# Altium schematic symbol library CLS_Library.SchLib: 22 symbols
Pins are listed as number, name and electrical type; pins without a type are passive.

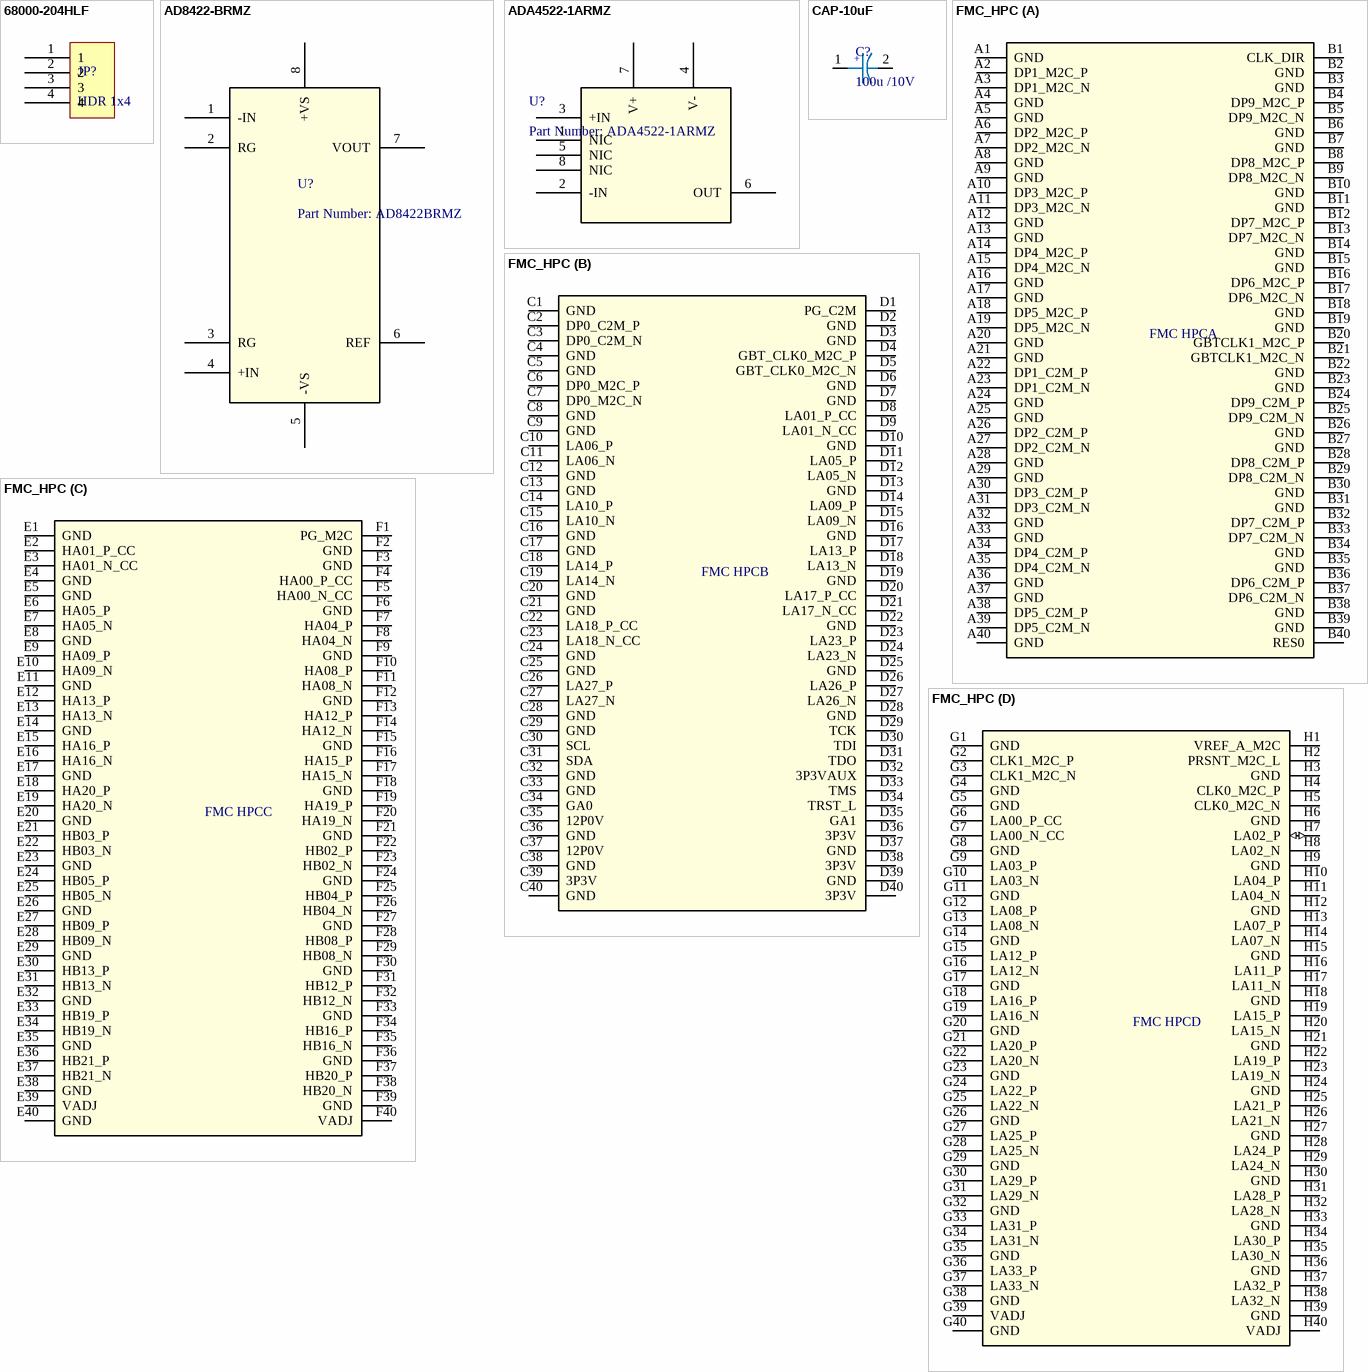
[diagram p0: symbols 68000-204HLF to FMC_HPC]

## 68000-204HLF
designator JP?, comment HDR 1x4
B.II CONN HEADER 4POS .100 STR 15AU; Manufacturer: Amphenol FCI; Manufacturer Part Number: 68000-204HLF; Voltage Rating: 1.5kV; Number of Positions: 4; Gender: Male; Connector Type: Male Pin; Current Rating: 3A; Insulation Resistance: 5GR; Pitch: 2.54mm; Mating Post Length: 5.84mm; Supplier 1: Digi-Key; Stock 1: 4921; Pricing 1: 1=0.31, 10=0.293, 100=0.2048, 500=0.1756, 1000=0.1463, 5000=0.1254, 10000=0.117 (USD); Mount: Through Hole; Colour: Black; Housing Colour: Black; Housing Material: Thermoplastic; Contact Plating: Nickel,Gold,GXT; Contact Material: Bronze; Min Operating Temperature: -65°C; Max Operating Temperature: 125°C; Package Quantity: 100; Number of Rows: 1; Packaging: Bulk; Contact Gender: Male; Termination: Solder; Max Voltage Rating (AC): 1.5kV; Number of Contacts: 4; Orientation: Straight; Length: 10.16mm; Depth: 2.41mm; Contact Mating Length: 0.23inch; Termination Post Length: 2.41mm; Radiation Hardening: No; Flammability Rating: UL94 V-0; ComponentLink1URL: https://datasheet.ciiva.com/728/68000-728901.pdf; ComponentLink1Description: https://datasheet.ciiva.com/728/68000-728901.pdf; ComponentLink2URL: https://datasheet.ciiva.com/22873/70302489-22873093.pdf; ComponentLink2Description: https://datasheet.ciiva.com/22873/70302489-22873093.pdf; ComponentLink3URL: https://datasheet.ciiva.com/10149/68000-10149835.pdf; ComponentLink3Description: https://datasheet.ciiva.com/10149/68000-10149835.pdf; ComponentLink4URL: https://datasheet.ciiva.com/5149/68000-274280-5149869.pdf; ComponentLink4Description: https://datasheet.ciiva.com/5149/68000-274280-5149869.pdf; ComponentLink5URL: https://datasheet.ciiva.com/46395/1914865-46395853.pdf; ComponentLink5Description: https://datasheet.ciiva.com/46395/1914865-46395853.pdf; Supplier Part Number 1: 609-3255-ND
footprint Hdr_1x4_2.54mm
pins: 1, 2, 3, 4

## AD8422-BRMZ
designator U?, comment Part Number: AD8422BRMZ
No Description Available; Vendor: Analog Devices Inc; Built_By: Analog Devices Inc.; SourceLibrary: Analog_2017-10-24; Manufacturer_Part_Number: AD8422BRMZ; Copyright: Copyright (C) 2018 Accelerated Designs. All rights reserved; RefDes: RefDes; Type: DEV; Value: Value
footprint AD8422
pins: 1 -IN, 2 RG, 3 RG, 4 +IN, 5 -VS, 6 REF, 7 VOUT, 8 +VS

## ADA4522-1ARMZ
designator U?, comment Part Number: ADA4522-1ARMZ
No Description Available; Vendor: Analog Devices Inc; Built_By: Analog Devices Inc.; SourceLibrary: Analog_2017-10-24; Manufacturer_Part_Number: ADA4522-1ARMZ; Copyright: Copyright (C) 2018 Accelerated Designs. All rights reserved; RefDes: RefDes; Type: DEV; Value: Value
footprint ADA4522-1
pins: 1 NIC, 2 -IN, 3 +IN, 4 V-, 5 NIC, 6 OUT, 7 V+, 8 NIC

## CAP-10uF
designator C?, comment 100u /10V
CAP ALUM 100UF 20% 10V SMD; Manufacturer: Panasonic Electronic Components; Manufacturer Part Number: EEE-1AA101WR; Lifetime @ Temp.: 1000 Hrs @ 85°C; Polarization: Polar; Surface Mount Land Size: 0.209" L x 0.209" W (5.30mm x 5.30mm); Supplier 1: Digi-Key; RoHS: RoHS Compliant; Category: Capacitors; Stock 1: 89696; Pricing 1: 1=0.31, 10=0.212, 100=0.1272, 500=0.09538 (USD); Packaging: Cut Tape (CT); Part Status: Active; Tolerance: ±20%; ESR (Equivalent Series Resistance): -; Operating Temperature: -40°C ~ 85°C; Ratings: AEC-Q200; Applications: Automotive; Lead Spacing: -; Size / Dimension: 0.197" Dia (5.00mm); Height - Seated (Max): 0.213" (5.40mm); Mounting Type: Surface Mount; Package / Case: Radial, Can - SMD; ComponentLink1URL: https://industrial.panasonic.com/cdbs/www-data/pdf/RDE0000/ABA0000C1145.pdf; ComponentLink1Description: https://industrial.panasonic.com/cdbs/www-data/pdf/RDE0000/ABA0000C1145.pdf; Supplier Part Number 1: PCE3867CT-ND
footprint C_ALU_C_SIZE
pins: 1, 2
text: +

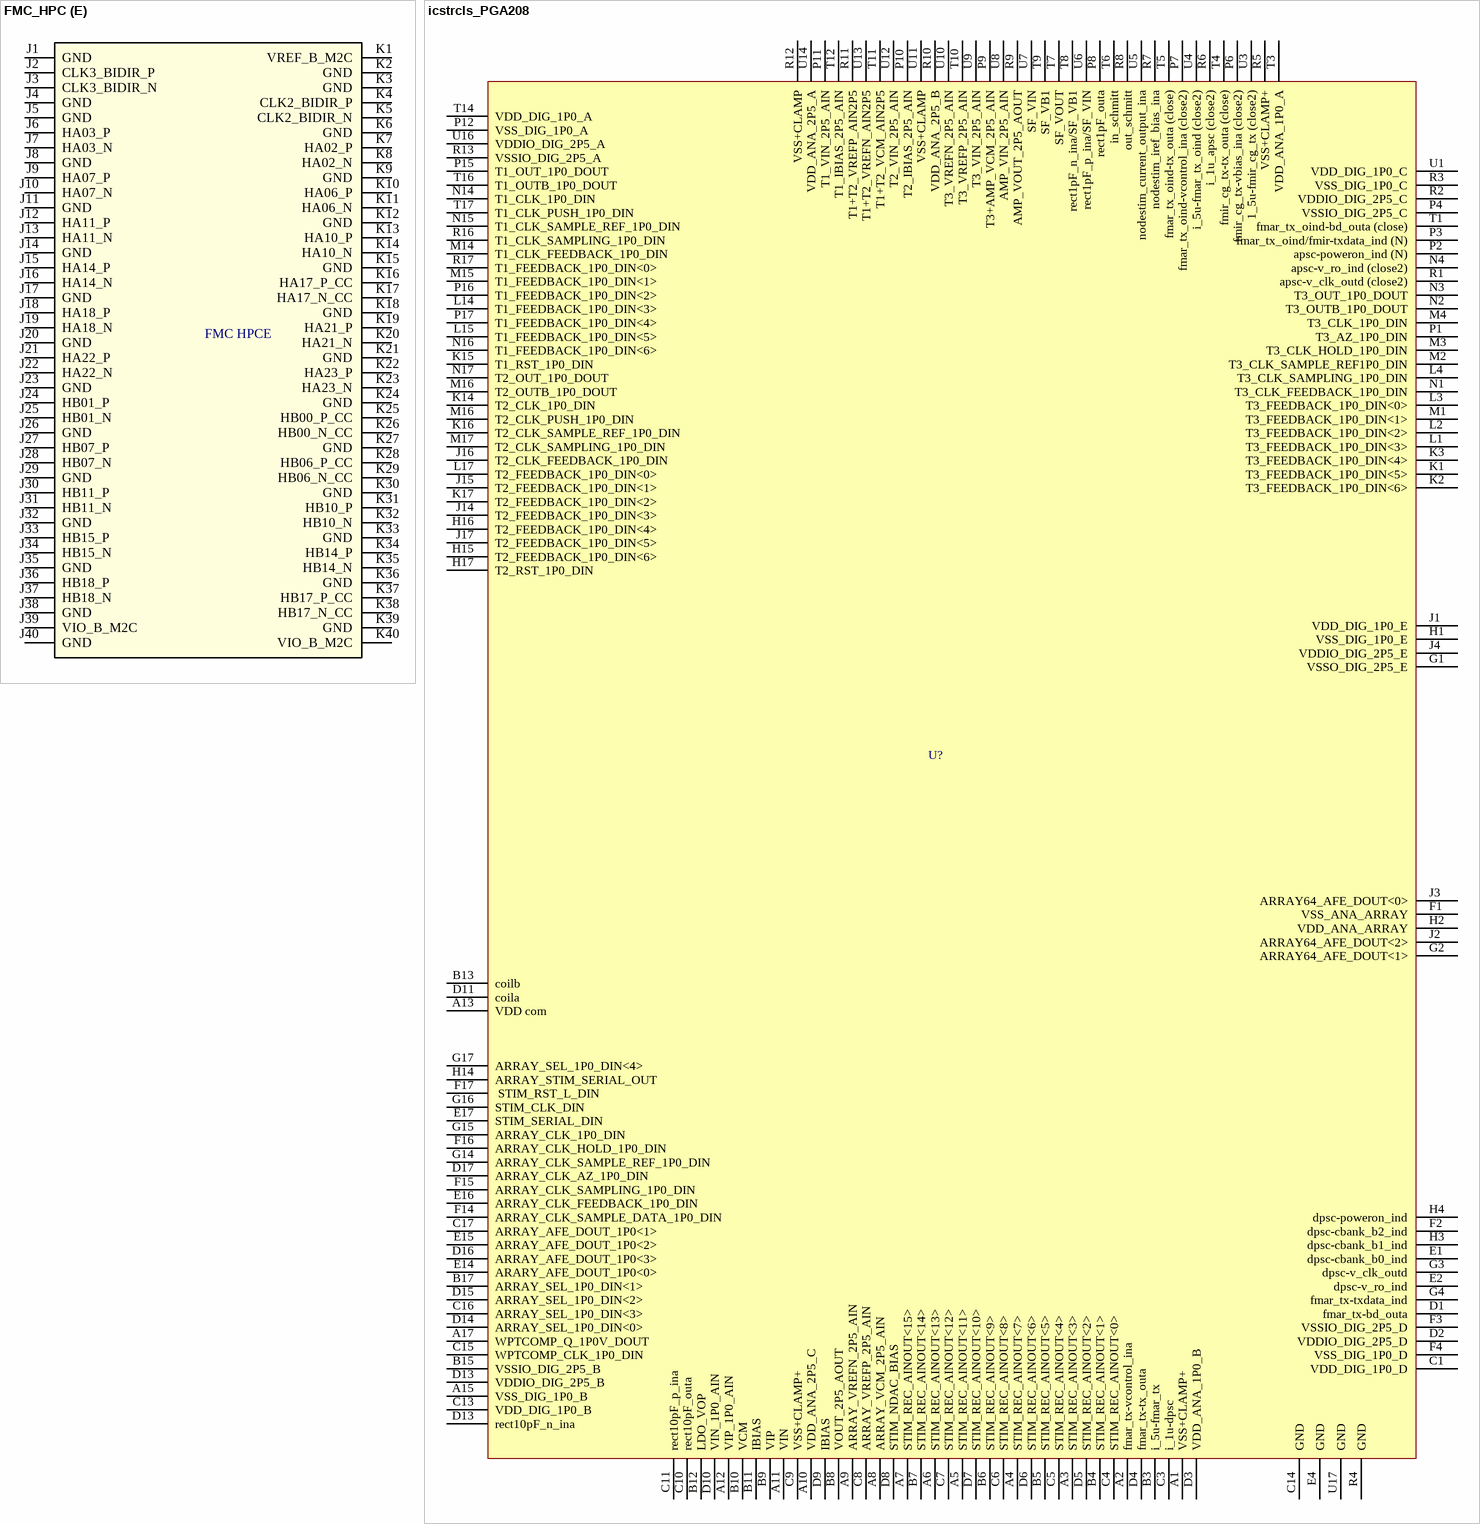
[diagram p1: symbols FMC_HPC to icstrcls_PGA208]

## FMC_HPC
designator FMC HPC
FMC_HPC
footprint FMC_HPC
part A pins: A1 GND, A2 DP1_M2C_P, A3 DP1_M2C_N, A4 GND, A5 GND, A6 DP2_M2C_P, A7 DP2_M2C_N, A8 GND, A9 GND, A10 DP3_M2C_P, A11 DP3_M2C_N, A12 GND, A13 GND, A14 DP4_M2C_P, A15 DP4_M2C_N, A16 GND, A17 GND, A18 DP5_M2C_P, A19 DP5_M2C_N, A20 GND, A21 GND, A22 DP1_C2M_P, A23 DP1_C2M_N, A24 GND, A25 GND, A26 DP2_C2M_P, A27 DP2_C2M_N, A28 GND, A29 GND, A30 DP3_C2M_P, A31 DP3_C2M_N, A32 GND, A33 GND, A34 DP4_C2M_P, A35 DP4_C2M_N, A36 GND, A37 GND, A38 DP5_C2M_P, A39 DP5_C2M_N, A40 GND, B1 CLK_DIR, B2 GND, B3 GND, B4 DP9_M2C_P, B5 DP9_M2C_N, B6 GND, B7 GND, B8 DP8_M2C_P, B9 DP8_M2C_N, B10 GND, B11 GND, B12 DP7_M2C_P, B13 DP7_M2C_N, B14 GND, B15 GND, B16 DP6_M2C_P, B17 DP6_M2C_N, B18 GND, B19 GND, B20 GBTCLK1_M2C_P, B21 GBTCLK1_M2C_N, B22 GND, B23 GND, B24 DP9_C2M_P, B25 DP9_C2M_N, B26 GND, B27 GND, B28 DP8_C2M_P, B29 DP8_C2M_N, B30 GND, B31 GND, B32 DP7_C2M_P, B33 DP7_C2M_N, B34 GND, B35 GND, B36 DP6_C2M_P, B37 DP6_C2M_N, B38 GND, B39 GND, B40 RES0
part B pins: C1 GND, C2 DP0_C2M_P, C3 DP0_C2M_N, C4 GND, C5 GND, C6 DP0_M2C_P, C7 DP0_M2C_N, C8 GND, C9 GND, C10 LA06_P, C11 LA06_N, C12 GND, C13 GND, C14 LA10_P, C15 LA10_N, C16 GND, C17 GND, C18 LA14_P, C19 LA14_N, C20 GND, C21 GND, C22 LA18_P_CC, C23 LA18_N_CC, C24 GND, C25 GND, C26 LA27_P, C27 LA27_N, C28 GND, C29 GND, C30 SCL, C31 SDA, C32 GND, C33 GND, C34 GA0, C35 12P0V, C36 GND, C37 12P0V, C38 GND, C39 3P3V, C40 GND, D1 PG_C2M, D2 GND, D3 GND, D4 GBT_CLK0_M2C_P, D5 GBT_CLK0_M2C_N, D6 GND, D7 GND, D8 LA01_P_CC, D9 LA01_N_CC, D10 GND, D11 LA05_P, D12 LA05_N, D13 GND, D14 LA09_P, D15 LA09_N, D16 GND, D17 LA13_P, D18 LA13_N, D19 GND, D20 LA17_P_CC, D21 LA17_N_CC, D22 GND, D23 LA23_P, D24 LA23_N, D25 GND, D26 LA26_P, D27 LA26_N, D28 GND, D29 TCK, D30 TDI, D31 TDO, D32 3P3VAUX, D33 TMS, D34 TRST_L, D35 GA1, D36 3P3V, D37 GND, D38 3P3V, D39 GND, D40 3P3V
part C pins: E1 GND, E2 HA01_P_CC, E3 HA01_N_CC, E4 GND, E5 GND, E6 HA05_P, E7 HA05_N, E8 GND, E9 HA09_P, E10 HA09_N, E11 GND, E12 HA13_P, E13 HA13_N, E14 GND, E15 HA16_P, E16 HA16_N, E17 GND, E18 HA20_P, E19 HA20_N, E20 GND, E21 HB03_P, E22 HB03_N, E23 GND, E24 HB05_P, E25 HB05_N, E26 GND, E27 HB09_P, E28 HB09_N, E29 GND, E30 HB13_P, E31 HB13_N, E32 GND, E33 HB19_P, E34 HB19_N, E35 GND, E36 HB21_P, E37 HB21_N, E38 GND, E39 VADJ, E40 GND, F1 PG_M2C, F2 GND, F3 GND, F4 HA00_P_CC, F5 HA00_N_CC, F6 GND, F7 HA04_P, F8 HA04_N, F9 GND, F10 HA08_P, F11 HA08_N, F12 GND, F13 HA12_P, F14 HA12_N, F15 GND, F16 HA15_P, F17 HA15_N, F18 GND, F19 HA19_P, F20 HA19_N, F21 GND, F22 HB02_P, F23 HB02_N, F24 GND, F25 HB04_P, F26 HB04_N, F27 GND, F28 HB08_P, F29 HB08_N, F30 GND, F31 HB12_P, F32 HB12_N, F33 GND, F34 HB16_P, F35 HB16_N, F36 GND, F37 HB20_P, F38 HB20_N, F39 GND, F40 VADJ
part D pins: G1 GND, G2 CLK1_M2C_P, G3 CLK1_M2C_N, G4 GND, G5 GND, G6 LA00_P_CC, G7 LA00_N_CC, G8 GND, G9 LA03_P, G10 LA03_N, G11 GND, G12 LA08_P, G13 LA08_N, G14 GND, G15 LA12_P, G16 LA12_N, G17 GND, G18 LA16_P, G19 LA16_N, G20 GND, G21 LA20_P, G22 LA20_N, G23 GND, G24 LA22_P, G25 LA22_N, G26 GND, G27 LA25_P, G28 LA25_N, G29 GND, G30 LA29_P, G31 LA29_N, G32 GND, G33 LA31_P, G34 LA31_N, G35 GND, G36 LA33_P, G37 LA33_N, G38 GND, G39 VADJ, G40 GND, H1 VREF_A_M2C, H2 PRSNT_M2C_L, H3 GND, H4 CLK0_M2C_P, H5 CLK0_M2C_N, H6 GND, H7 LA02_P (io), H8 LA02_N, H9 GND, H10 LA04_P, H11 LA04_N, H12 GND, H13 LA07_P, H14 LA07_N, H15 GND, H16 LA11_P, H17 LA11_N, H18 GND, H19 LA15_P, H20 LA15_N, H21 GND, H22 LA19_P, H23 LA19_N, H24 GND, H25 LA21_P, H26 LA21_N, H27 GND, H28 LA24_P, H29 LA24_N, H30 GND, H31 LA28_P, H32 LA28_N, H33 GND, H34 LA30_P, H35 LA30_N, H36 GND, H37 LA32_P, H38 LA32_N, H39 GND, H40 VADJ
part E pins: J1 GND, J2 CLK3_BIDIR_P, J3 CLK3_BIDIR_N, J4 GND, J5 GND, J6 HA03_P, J7 HA03_N, J8 GND, J9 HA07_P, J10 HA07_N, J11 GND, J12 HA11_P, J13 HA11_N, J14 GND, J15 HA14_P, J16 HA14_N, J17 GND, J18 HA18_P, J19 HA18_N, J20 GND, J21 HA22_P, J22 HA22_N, J23 GND, J24 HB01_P, J25 HB01_N, J26 GND, J27 HB07_P, J28 HB07_N, J29 GND, J30 HB11_P, J31 HB11_N, J32 GND, J33 HB15_P, J34 HB15_N, J35 GND, J36 HB18_P, J37 HB18_N, J38 GND, J39 VIO_B_M2C, J40 GND, K1 VREF_B_M2C, K2 GND, K3 GND, K4 CLK2_BIDIR_P, K5 CLK2_BIDIR_N, K6 GND, K7 HA02_P, K8 HA02_N, K9 GND, K10 HA06_P, K11 HA06_N, K12 GND, K13 HA10_P, K14 HA10_N, K15 GND, K16 HA17_P_CC, K17 HA17_N_CC, K18 GND, K19 HA21_P, K20 HA21_N, K21 GND, K22 HA23_P, K23 HA23_N, K24 GND, K25 HB00_P_CC, K26 HB00_N_CC, K27 GND, K28 HB06_P_CC, K29 HB06_N_CC, K30 GND, K31 HB10_P, K32 HB10_N, K33 GND, K34 HB14_P, K35 HB14_N, K36 GND, K37 HB17_P_CC, K38 HB17_N_CC, K39 GND, K40 VIO_B_M2C

## icstrcls_PGA208
designator U?  (value not drawn)
footprint CPGA20809 (208 Pinout)
pins: A1 VSS+CLAMP+, A2 fmar_tx-vcontrol_ina, A3 STIM_REC_AINOUT<3>, A4 STIM_REC_AINOUT<7>, A5 STIM_REC_AINOUT<11>, A6 STIM_REC_AINOUT<13>, A7 STIM_REC_AINOUT<15>, A8 ARRAY_VCM_2P5_AIN, A9 ARRAY_VREFN_2P5_AIN, A10 VDD_ANA_2P5_C, A11 VIN, A12 VIP_1P0_AIN, A13 VDD com, A15 VSS_DIG_1P0_B, A17 WPTCOMP_Q_1P0V_DOUT, B3 i_5u-fmar_tx, B4 STIM_REC_AINOUT<1>, B5 STIM_REC_AINOUT<5>, B6 STIM_REC_AINOUT<9>, B7 STIM_REC_AINOUT<14>, B8 VOUT_2P5_AOUT, B9 VIP, B10 VCM, B11 IBIAS, B12 LDO_VOP, B13 coilb, B15 VSSIO_DIG_2P5_B, B17 ARRAY_SEL_1P0_DIN<1>, C1 VDD_DIG_1P0_D, C3 i_1u-dpsc, C4 STIM_REC_AINOUT<0>, C5 STIM_REC_AINOUT<4>, C6 STIM_REC_AINOUT<8>, C7 STIM_REC_AINOUT<12>, C8 ARRAY_VREFP_2P5_AIN, C9 VSS+CLAMP+, C10 rect10pF_outa, C11 rect10pF_p_ina, C13 VDD_DIG_1P0_B, C14 GND, C15 WPTCOMP_CLK_1P0_DIN, C16 ARRAY_SEL_1P0_DIN<3>, C17 ARRAY_AFE_DOUT_1P0<1>, D1 fmar_tx-bd_outa, D2 VDDIO_DIG_2P5_D, D3 VDD_ANA_1P0_B, D4 fmar_tx-tx_outa, D5 STIM_REC_AINOUT<2>, D6 STIM_REC_AINOUT<6>, D7 STIM_REC_AINOUT<10>, D8 STIM_NDAC_BIAS, D9 IBIAS, D10 VIN_1P0_AIN, D11 coila, D13 rect10pF_n_ina, D13 VDDIO_DIG_2P5_B, D14 ARRAY_SEL_1P0_DIN<0>, D15 ARRAY_SEL_1P0_DIN<2>, D16 ARRAY_AFE_DOUT_1P0<3>, D17 ARRAY_CLK_AZ_1P0_DIN, E1 dpsc-cbank_b0_ind, E2 dpsc-v_ro_ind, E4 GND, E14 ARARY_AFE_DOUT_1P0<0>, E15 ARRAY_AFE_DOUT_1P0<2>, E16 ARRAY_CLK_FEEDBACK_1P0_DIN, E17 STIM_SERIAL_DIN, F1 VSS_ANA_ARRAY, F2 dpsc-cbank_b2_ind, F3 VSSIO_DIG_2P5_D, F4 VSS_DIG_1P0_D, F14 ARRAY_CLK_SAMPLE_DATA_1P0_DIN, F15 ARRAY_CLK_SAMPLING_1P0_DIN, F16 ARRAY_CLK_HOLD_1P0_DIN, F17  STIM_RST_L_DIN, G1 VSSO_DIG_2P5_E, G2 ARRAY64_AFE_DOUT<1>, G3 dpsc-v_clk_outd, G4 fmar_tx-txdata_ind, G14 ARRAY_CLK_SAMPLE_REF_1P0_DIN, G15 ARRAY_CLK_1P0_DIN, G16 STIM_CLK_DIN, G17 ARRAY_SEL_1P0_DIN<4>, H1 VSS_DIG_1P0_E, H2 VDD_ANA_ARRAY, H3 dpsc-cbank_b1_ind, H4 dpsc-poweron_ind, H14 ARRAY_STIM_SERIAL_OUT, H15 T2_FEEDBACK_1P0_DIN<6>, H16 T2_FEEDBACK_1P0_DIN<4>, H17 T2_RST_1P0_DIN, J1 VDD_DIG_1P0_E, J2 ARRAY64_AFE_DOUT<2>, J3 ARRAY64_AFE_DOUT<0>, J4 VDDIO_DIG_2P5_E, J14 T2_FEEDBACK_1P0_DIN<3>, J15 T2_FEEDBACK_1P0_DIN<1>, J16 T2_CLK_FEEDBACK_1P0_DIN, J17 T2_FEEDBACK_1P0_DIN<5>, K1 T3_FEEDBACK_1P0_DIN<5>, K2 T3_FEEDBACK_1P0_DIN<6>, K3 T3_FEEDBACK_1P0_DIN<4>, K14 T2_CLK_1P0_DIN, K15 T1_RST_1P0_DIN, K16 T2_CLK_SAMPLE_REF_1P0_DIN, K17 T2_FEEDBACK_1P0_DIN<2>, L1 T3_FEEDBACK_1P0_DIN<3>, L2 T3_FEEDBACK_1P0_DIN<2>, L3 T3_FEEDBACK_1P0_DIN<0>, L4 T3_CLK_SAMPLING_1P0_DIN, L14 T1_FEEDBACK_1P0_DIN<3>, L15 T1_FEEDBACK_1P0_DIN<5>, L17 T2_FEEDBACK_1P0_DIN<0>, M1 T3_FEEDBACK_1P0_DIN<1>, M2 T3_CLK_SAMPLE_REF1P0_DIN, M3 T3_CLK_HOLD_1P0_DIN, M4 T3_CLK_1P0_DIN, M14 T1_CLK_FEEDBACK_1P0_DIN, M15 T1_FEEDBACK_1P0_DIN<1>, M16 T2_CLK_PUSH_1P0_DIN, M16 T2_OUTB_1P0_DOUT, M17 T2_CLK_SAMPLING_1P0_DIN, N1 T3_CLK_FEEDBACK_1P0_DIN, N2 T3_OUTB_1P0_DOUT, N3 T3_OUT_1P0_DOUT, N4 apsc-v_ro_ind (close2), N14 T1_CLK_1P0_DIN, N15 T1_CLK_SAMPLE_REF_1P0_DIN, N16 T1_FEEDBACK_1P0_DIN<6>, N17 T2_OUT_1P0_DOUT, P1 T3_AZ_1P0_DIN, P2 apsc-poweron_ind (N), P3 fmar_tx_oind/fmir-txdata_ind (N), P4 VSSIO_DIG_2P5_C, P6 fmir_cg_tx-vbias_ina (close2), P7 fmar_tx_oind-vcontrol_ina (close2), P8 rect1pF_outa, P9 T3+AMP_VCM_2P5_AIN, P10 T2_IBIAS_2P5_AIN, P11 T1_VIN_2P5_AIN, P12 VSS_DIG_1P0_A, P15 T1_OUT_1P0_DOUT, P16 T1_FEEDBACK_1P0_DIN<2>, P17 T1_FEEDBACK_1P0_DIN<4>, R1 apsc-v_clk_outd (close2), R2 VDDIO_DIG_2P5_C, R3 VSS_DIG_1P0_C, R4 GND, R5 VSS+CLAMP+, R6 i_1u_apsc (close2), R7 nodestim_iref_bias_ina, R8 out_schmitt, R9 AMP_VOUT_2P5_AOUT, R10 VDD_ANA_2P5_B, R11 T1+T2_VREFP_AIN2P5, R12 VSS+CLAMP, R13 VSSIO_DIG_2P5_A, R16 T1_CLK_SAMPLING_1P0_DIN, R17 T1_FEEDBACK_1P0_DIN<0>, T1 fmar_tx_oind-bd_outa (close), T3 VDD_ANA_1P0_A, T4 fmir_cg_tx-tx_outa (close), T5 fmar_tx_oind-tx_outa (close), T6 in_schmitt, T7 SF_VOUT, T8 rect1pF_n_ina/SF_VB1, T9 SF_VB1, T10 T3_VREFP_2P5_AIN, T11 T1+T2_VCM_AIN2P5, T12 T1_IBIAS_2P5_AIN, T14 VDD_DIG_1P0_A, T16 T1_OUTB_1P0_DOUT, T17 T1_CLK_PUSH_1P0_DIN, U1 VDD_DIG_1P0_C, U3 1_5u-fmir_cg_tx (close2), U4 i_5u-fmar_tx_oind (close2), U5 nodestim_current_output_ina, U6 rect1pF_p_ina/SF_VIN, U7 SF_VIN, U8 AMP_VIN_2P5_AIN, U9 T3_VIN_2P5_AIN, U10 T3_VREFN_2P5_AIN, U11 VSS+CLAMP, U12 T2_VIN_2P5_AIN, U13 T1+T2_VREFN_AIN2P5, U14 VDD_ANA_2P5_A, U16 VDDIO_DIG_2P5_A, U17 GND

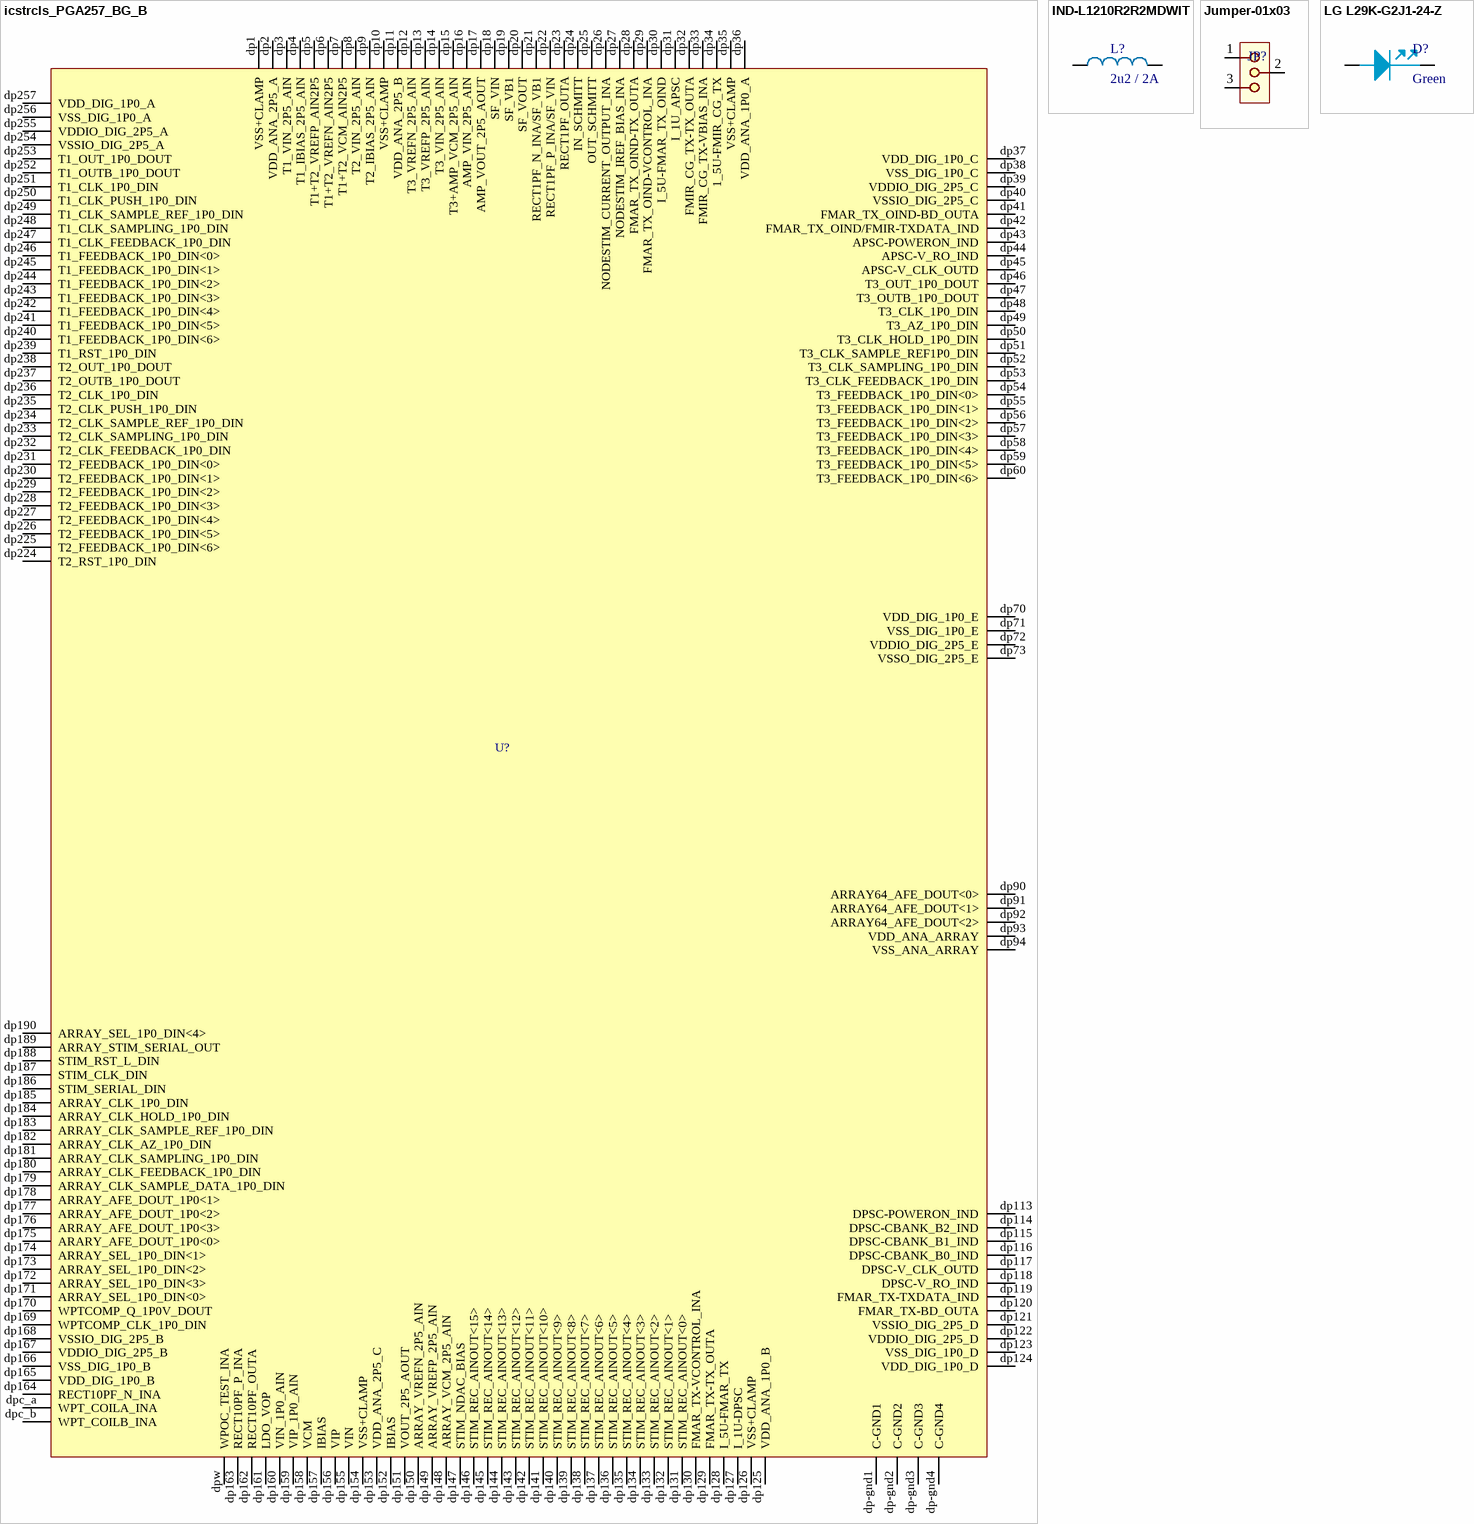
[diagram p2: symbols icstrcls_PGA257_BG_B to LG L29K-G2J1-24-Z]

## icstrcls_PGA257_BG_B
designator U?  (value not drawn)
[Bonding Diagram B - Analog] ICSTRCLS complete schematic component used to interface with PGA257 socket.
footprint CPG25604 (256 Pinout (1 align pin)); pin to pad dp1>T1 dp2>N4 dp3>R2 dp4>N3 dp5>R1 dp6>M3 dp7>P2 dp8>M4 dp9>P1 dp10>M2 dp11>N2 dp12>L3 dp13>N1 dp14>L4 dp15>M1 dp16>L2 dp17>L1 dp18>K2 dp19>K1 dp20>K4 dp21>J1 dp22>K3 dp23>H1 dp24>J2 dp25>G1 dp26>J4 dp27>H2 dp28>J3 dp29>F1 dp30>H3 dp31>G2 dp32>H4 dp33>E1 dp34>G3 dp35>F2 dp36>G4 dp37>D5 dp38>B2 dp39>D6 dp40>B3 dp41>C5 dp42>A3 dp43>D7 dp44>B4 dp45>C6 dp46>A4 dp47>C7 dp48>B5 dp49>D8 dp50>A5 dp51>C8 dp52>B6 dp53>C9 dp54>A6 dp55>D9 dp56>A7 dp57>B9 dp58>B8 dp59>C10 dp60>A8 dp70>D10 dp71>A9 dp72>B10 dp73>A10 dp90>B11 dp91>A11 dp92>D11 dp93>A13 dp94>B12 dp113>D12 dp114>A15 dp115>C12 dp116>B14 dp117>C13 dp118>A16 dp119>D13 dp120>B15 dp121>C14 dp122>B18 dp123>D14 dp124>A20 dp125>D19 dp126>G17 dp127>E19 dp128>G18 dp129>E20 dp130>H17 dp131>F20 dp132>J18 dp133>G19 dp134>J17 dp135>G20 dp136>J19 dp137>H19 dp138>K18 dp139>H20 dp140>K17 dp141>J20 dp142>K19 dp143>K20 dp144>L19 dp145>L20 dp146>L17 dp147>M20 dp148>L18 dp149>N20 dp150>M19 dp151>P20 dp152>M17 dp153>N19 dp154>M18 dp155>R20 dp156>N18 dp157>P19 dp158>N17 dp159>T20 dp160>P18 dp161>R19 dp162>P17 dp163>R18 dp164>V20 dp165>U18 dp166>U19 dp167>U17 dp168>W20 dp169>U15 dp170>W18 dp171>V16 dp172>Y18 dp173>U14 dp174>W17 dp175>V15 dp176>Y17 dp177>V14 dp178>W16 dp179>U13 dp180>Y16 dp181>V13 dp182>W15 dp183>V12 dp184>Y15 dp185>W12 dp186>W13 dp187>V11 dp188>Y13 dp189>U11 dp190>Y12 dp224>Y10 dp225>U10 dp226>Y9 dp227>V10 dp228>Y8 dp229>W9 dp230>W8 dp231>U9 dp232>Y6 dp233>V9 dp234>W7 dp235>V8 dp236>Y5 dp237>U8 dp238>W6 dp239>V7 dp240>Y4 dp241>U7 dp242>W5 dp243>V6 dp244>Y3 dp245>U6 dp246>W4 dp247>V5 dp248>Y2 dp249>U5 dp250>W3 dp251>V4 dp252>Y1 dp253>U4 dp254>V2 dp255>T4 dp256>V1 dp257>U3 dp-gnd1>C18 dp-gnd2>C3 dp-gnd3>V3 dp-gnd4>V18 dpc_a>R17 dpc_b>T19 dpw>U20
pins: dp1 VSS+CLAMP "dp1 (GND): VSS+CLAMP", dp2 VDD_ANA_2P5_A "dp2 (PWR): VDD_ANA_2P5_A", dp3 T1_VIN_2P5_AIN "dp3 (A0): T1_VIN_2P5_AIN", dp4 T1_IBIAS_2P5_AIN "dp4 (A1): T1_IBIAS_2P5_AIN", dp5 T1+T2_VREFP_AIN2P5 "dp5 (A2): T1+T2_VREFP_AIN2P5", dp6 T1+T2_VREFN_AIN2P5 "dp6 (A3): T1+T2_VREFN_AIN2P5", dp7 T1+T2_VCM_AIN2P5 "dp7 (A4): T1+T2_VCM_AIN2P5", dp8 T2_VIN_2P5_AIN "dp8 (A5): T2_VIN_2P5_AIN", dp9 T2_IBIAS_2P5_AIN "dp9 (A6): T2_IBIAS_2P5_AIN", dp10 VSS+CLAMP "dp10 (GND): VSS+CLAMP", dp11 VDD_ANA_2P5_B "dp11 (PWR): VDD_ANA_2P5_B", dp12 T3_VREFN_2P5_AIN "dp12 (A7): T3_VREFN_2P5_AIN", dp13 T3_VREFP_2P5_AIN "dp13 (A8): T3_VREFP_2P5_AIN", dp14 T3_VIN_2P5_AIN "dp14 (A9): T3_VIN_2P5_AIN", dp15 T3+AMP_VCM_2P5_AIN "dp15 (A10): T3+AMP_VCM_2P5_AIN", dp16 AMP_VIN_2P5_AIN "dp16 (A11): AMP_VIN_2P5_AIN", dp17 AMP_VOUT_2P5_AOUT "dp17 (A12): AMP_VOUT_2P5_AOUT", dp18 SF_VIN "dp18 (A13): SF_VIN", dp19 SF_VB1 "dp19 (A14): SF_VB1", dp20 SF_VOUT "dp20 (A15): SF_VOUT", dp21 RECT1PF_N_INA/SF_VB1 "dp21 (A16): RECT1PF_N_INA/SF_VB1", dp22 RECT1PF_P_INA/SF_VIN "dp22 (A17): RECT1PF_P_INA/SF_VIN", dp23 RECT1PF_OUTA "dp23 (A18): RECT1PF_OUTA", dp24 IN_SCHMITT "dp24 (A19): IN_SCHMITT", dp25 OUT_SCHMITT "dp25 (A20): OUT_SCHMITT", dp26 NODESTIM_CURRENT_OUTPUT_INA "dp26 (A21): NODESTIM_CURRENT_OUTPUT_INA", dp27 NODESTIM_IREF_BIAS_INA "dp27 (A22): NODESTIM_IREF_BIAS_INA", dp28 FMAR_TX_OIND-TX_OUTA "dp28 (A23): FMAR_TX_OIND-TX_OUTA", dp29 FMAR_TX_OIND-VCONTROL_INA "dp29 (A24): FMAR_TX_OIND-VCONTROL_INA", dp30 I_5U-FMAR_TX_OIND "dp30 (A25): I_5U-FMAR_TX_OIND", dp31 I_1U_APSC "dp31 (A26): I_1U_APSC", dp32 FMIR_CG_TX-TX_OUTA "dp32 (A27): FMIR_CG_TX-TX_OUTA", dp33 FMIR_CG_TX-VBIAS_INA "dp33 (A28): FMIR_CG_TX-VBIAS_INA", dp34 1_5U-FMIR_CG_TX "dp34 (A29): 1_5U-FMIR_CG_TX", dp35 VSS+CLAMP "dp35 (GND): VSS+CLAMP", dp36 VDD_ANA_1P0_A "dp36 (PWR): VDD_ANA_1P0_A", dp37 VDD_DIG_1P0_C "dp37 (PWR): VDD_DIG_1P0_C", dp38 VSS_DIG_1P0_C "dp38 (GND): VSS_DIG_1P0_C", dp39 VDDIO_DIG_2P5_C "dp39 (PWR): VDDIO_DIG_2P5_C", dp40 VSSIO_DIG_2P5_C "dp40 (GND): VSSIO_DIG_2P5_C", dp41 FMAR_TX_OIND-BD_OUTA "dp41 (D0): FMAR_TX_OIND-BD_OUTA", dp42 FMAR_TX_OIND/FMIR-TXDATA_IND "dp42 (D1): FMAR_TX_OIND/FMIR-TXDATA_IND", dp43 APSC-POWERON_IND "dp43 (D2): APSC-POWERON_IND", dp44 APSC-V_RO_IND "dp44 (D3): APSC-V_RO_IND", dp45 APSC-V_CLK_OUTD "dp45 (D4): APSC-V_CLK_OUTD", dp46 T3_OUT_1P0_DOUT "dp46 (D5): T3_OUT_1P0_DOUT", dp47 T3_OUTB_1P0_DOUT "dp47 (D6): T3_OUTB_1P0_DOUT", dp48 T3_CLK_1P0_DIN "dp48 (D7): T3_CLK_1P0_DIN", dp49 T3_AZ_1P0_DIN "dp49 (D8): T3_AZ_1P0_DIN", dp50 T3_CLK_HOLD_1P0_DIN "dp50 (D9): T3_CLK_HOLD_1P0_DIN", dp51 T3_CLK_SAMPLE_REF1P0_DIN "dp51 (D10): T3_CLK_SAMPLE_REF1P0_DIN", dp52 T3_CLK_SAMPLING_1P0_DIN "dp52 (D11): T3_CLK_SAMPLING_1P0_DIN", dp53 T3_CLK_FEEDBACK_1P0_DIN "dp53 (D12): T3_CLK_FEEDBACK_1P0_DIN", dp54 T3_FEEDBACK_1P0_DIN<0> "dp54 (D13): T3_FEEDBACK_1P0_DIN<0>", dp55 T3_FEEDBACK_1P0_DIN<1> "dp55 (D14): T3_FEEDBACK_1P0_DIN<1>", dp56 T3_FEEDBACK_1P0_DIN<2> "dp56 (D15): T3_FEEDBACK_1P0_DIN<2>", dp57 T3_FEEDBACK_1P0_DIN<3> "dp57 (D16): T3_FEEDBACK_1P0_DIN<3>", dp58 T3_FEEDBACK_1P0_DIN<4> "dp58 (D17): T3_FEEDBACK_1P0_DIN<4>", dp59 T3_FEEDBACK_1P0_DIN<5> "dp59 (D18): T3_FEEDBACK_1P0_DIN<5>", dp60 T3_FEEDBACK_1P0_DIN<6> "dp60 (D19): T3_FEEDBACK_1P0_DIN<6>", dp61 NETRODE-CLK (hiz) hidden "dp61 (D20): NETRODE-CLK", dp62 NETRODE-RST (hiz) hidden "dp62 (D21): NETRODE-RST", dp63 NETRODE-SYS_SEL (hiz) hidden "dp63 (D22): NETRODE-SYS_SEL", dp64 NETRODE-SYS_MODE<0> (hiz) hidden "dp64 (D23): NETRODE-SYS_MODE<0>", dp65 NETRODE-SYS_MODE<1> (hiz) hidden "dp65 (D24): NETRODE-SYS_MODE<1>", dp66 NETRODE-SYS_MODE<2> (hiz) hidden "dp66 (D25): NETRODE-SYS_MODE<2>", dp67 NETRODE-DIN (hiz) hidden "dp67 (D26): NETRODE-DIN", dp68 NETRODE-DOUT (hiz) hidden "dp68 (D27): NETRODE-DOUT", dp69 NETRODE-SYS_RDY (hiz) hidden "dp69 (D28): NETRODE-SYS_RDY", dp70 VDD_DIG_1P0_E "dp70 (PWR): VDD_DIG_1P0_E", dp71 VSS_DIG_1P0_E "dp71 (GND): VSS_DIG_1P0_E", dp72 VDDIO_DIG_2P5_E "dp72 (PWR): VDDIO_DIG_2P5_E", dp73 VSSO_DIG_2P5_E "dp73 (GND): VSSO_DIG_2P5_E", dp74 UP_CLKIN_RISC (hiz) hidden "dp74 (D34): UP_CLKIN_RISC", dp75 UP_FETCH_ENABLE_I (hiz) hidden "dp75 (D35): UP_FETCH_ENABLE_I", dp76 UP_TESTMODE_I (hiz) hidden "dp76 (D36): UP_TESTMODE_I", dp77 UP_SPI_CLK (hiz) hidden "dp77 (D37): UP_SPI_CLK", dp78 UP_SEL (hiz) hidden "dp78 (D38): UP_SEL", dp79 UP_SEL_EN (hiz) hidden "dp79 (D39): UP_SEL_EN", dp80 UP_RST_N (hiz) hidden "dp80 (D40): UP_RST_N", dp81 UP_SP_CS (hiz) hidden "dp81 (D41): UP_SP_CS", dp82 UP_JTAG_TCK_I (hiz) hidden "dp82 (D42): UP_JTAG_TCK_I", dp83 UP_JTAG_TDI_I (hiz) hidden "dp83 (D43): UP_JTAG_TDI_I", dp84 UP_JTAG_TMS_I (hiz) hidden "dp84 (D44): UP_JTAG_TMS_I", dp85 UP_JTAG_TRSTN_I (hiz) hidden "dp85 (D45): UP_JTAG_TRSTN_I", dp86 UP_SPI_SDI_I (hiz) hidden "dp86 (D46): UP_SPI_SDI_I", dp87 UP_SPI_DO_O (hiz) hidden "dp87 (D47): UP_SPI_DO_O", dp88 UP_JTAG_TDO_O (hiz) hidden "dp88 (D48): UP_JTAG_TDO_O", dp89 UP_GPIO_SEL (hiz) hidden "dp89 (D49): UP_GPIO_SEL", dp90 ARRAY64_AFE_DOUT<0> "dp90 (D50): ARRAY64_AFE_DOUT<0>", dp91 ARRAY64_AFE_DOUT<1> "dp91 (D51): ARRAY64_AFE_DOUT<1>", dp92 ARRAY64_AFE_DOUT<2> "dp92 (D52): ARRAY64_AFE_DOUT<2>", dp93 VDD_ANA_ARRAY "dp93 (PWR): VDD_ANA_ARRAY", dp94 VSS_ANA_ARRAY "dp94 (GND): VSS_ANA_ARRAY", dp95 BF_PRDATA[15] (hiz) hidden "dp95 (D62): BF_PRDATA[15]", dp96 BF_PRDATA[14] (hiz) hidden "dp96 (D63): BF_PRDATA[14]", dp97 BF_PRDATA[13] (hiz) hidden "dp97 (D64): BF_PRDATA[13]", dp98 BF_PRDATA[12] (hiz) hidden "dp98 (D65): BF_PRDATA[12]", dp99 BF_PRDATA[11] (hiz) hidden "dp99 (D66): BF_PRDATA[11]", dp100 BF_PRDATA[10] (hiz) hidden "dp100 (D67): BF_PRDATA[10]", dp101 BF_PRDATA[9] (hiz) hidden "dp101 (D68): BF_PRDATA[9]", dp102 BF_PRDATA[8] (hiz) hidden "dp102 (D69): BF_PRDATA[8]", dp103 BF_PRDATA[7] (hiz) hidden "dp103 (D70): BF_PRDATA[7]", dp104 BF_PRDATA[6] (hiz) hidden "dp104 (D71): BF_PRDATA[6]", dp105 BF_PRDATA[5] (hiz) hidden "dp105 (D72): BF_PRDATA[5]", dp106 BF_PRDATA[4] (hiz) hidden "dp106 (D73): BF_PRDATA[4]", dp107 BF_PRDATA[3] (hiz) hidden "dp107 (D74): BF_PRDATA[3]", dp108 BF_PRDATA[2] (hiz) hidden "dp108 (D75): BF_PRDATA[2]", dp109 BF_PRDATA[1] (hiz) hidden "dp109 (D76): BF_PRDATA[1]", dp110 BF_PRDATA[0] (hiz) hidden "dp110 (D77): BF_PRDATA[0]", dp111 BF_PREADY (hiz) hidden "dp111 (D78): BF_PREADY", dp112 BF_SYS_DONE (hiz) hidden "dp112 (D79): BF_SYS_DONE", dp113 DPSC-POWERON_IND "dp113 (D80): DPSC-POWERON_IND", dp114 DPSC-CBANK_B2_IND "dp114 (D81): DPSC-CBANK_B2_IND", dp115 DPSC-CBANK_B1_IND "dp115 (D82): DPSC-CBANK_B1_IND", dp116 DPSC-CBANK_B0_IND "dp116 (D83): DPSC-CBANK_B0_IND", dp117 DPSC-V_CLK_OUTD "dp117 (D84): DPSC-V_CLK_OUTD", dp118 DPSC-V_RO_IND "dp118 (D85): DPSC-V_RO_IND", dp119 FMAR_TX-TXDATA_IND "dp119 (D86): FMAR_TX-TXDATA_IND", dp120 FMAR_TX-BD_OUTA "dp120 (D87): FMAR_TX-BD_OUTA", dp121 VSSIO_DIG_2P5_D "dp121 (GND): VSSIO_DIG_2P5_D", dp122 VDDIO_DIG_2P5_D "dp122 (PWR): VDDIO_DIG_2P5_D", dp123 VSS_DIG_1P0_D "dp123 (GND): VSS_DIG_1P0_D", dp124 VDD_DIG_1P0_D "dp124 (PWR): VDD_DIG_1P0_D", dp125 VDD_ANA_1P0_B "dp125 (PWR): VDD_ANA_1P0_B", dp126 VSS+CLAMP "dp126 (GND): VSS+CLAMP", dp127 I_1U-DPSC "dp127 (A30): I_1U-DPSC", dp128 I_5U-FMAR_TX "dp128 (A31): I_5U-FMAR_TX", dp129 FMAR_TX-TX_OUTA "dp129 (A32): FMAR_TX-TX_OUTA", dp130 FMAR_TX-VCONTROL_INA "dp130 (A33): FMAR_TX-VCONTROL_INA", dp131 STIM_REC_AINOUT<0> "dp131 (A34): STIM_REC_AINOUT<0>", dp132 STIM_REC_AINOUT<1> "dp132 (A35): STIM_REC_AINOUT<1>", dp133 STIM_REC_AINOUT<2> "dp133 (A36): STIM_REC_AINOUT<2>", dp134 STIM_REC_AINOUT<3> "dp134 (A37): STIM_REC_AINOUT<3>", dp135 STIM_REC_AINOUT<4> "dp135 (A38): STIM_REC_AINOUT<4>", dp136 STIM_REC_AINOUT<5> "dp136 (A39): STIM_REC_AINOUT<5>", dp137 STIM_REC_AINOUT<6> "dp137 (A40): STIM_REC_AINOUT<6>", dp138 STIM_REC_AINOUT<7> "dp138 (A41): STIM_REC_AINOUT<7>", dp139 STIM_REC_AINOUT<8> "dp139 (A42): STIM_REC_AINOUT<8>", dp140 STIM_REC_AINOUT<9> "dp140 (BF_PREADY): BF_SYS_DONE", dp141 STIM_REC_AINOUT<10> "dp141 (A44): STIM_REC_AINOUT<10>", dp142 STIM_REC_AINOUT<11> "dp142 (A45): STIM_REC_AINOUT<11>", dp143 STIM_REC_AINOUT<12> "dp143 (A46): STIM_REC_AINOUT<12>", dp144 STIM_REC_AINOUT<13> "dp144 (A47): STIM_REC_AINOUT<13>", dp145 STIM_REC_AINOUT<14> "dp145 (A48): STIM_REC_AINOUT<14>", dp146 STIM_REC_AINOUT<15> "dp146 (A49): STIM_REC_AINOUT<15>", dp147 STIM_NDAC_BIAS "dp147 (A50): STIM_NDAC_BIAS", dp148 ARRAY_VCM_2P5_AIN "dp148 (A51): ARRAY_VCM_2P5_AIN", dp149 ARRAY_VREFP_2P5_AIN "dp149 (A52): ARRAY_VREFP_2P5_AIN", dp150 ARRAY_VREFN_2P5_AIN "dp150 (A53): ARRAY_VREFN_2P5_AIN", dp151 VOUT_2P5_AOUT "dp151 (A54): VOUT_2P5_AOUT", dp152 IBIAS "dp152 (A55): IBIAS", dp153 VDD_ANA_2P5_C "dp153 (PWR): VDD_ANA_2P5_C", dp154 VSS+CLAMP "dp154 (GND): VSS+CLAMP", dp155 VIN "dp155 (A56): VIN", dp156 VIP "dp156 (A57): VIP", dp157 IBIAS "dp157 (A58): IBIAS", dp158 VCM "dp158 (A59): VCM", dp159 VIP_1P0_AIN "dp159 (A60): VIP_1P0_AIN", dp160 VIN_1P0_AIN "dp160 (A61): VIN_1P0_AIN", dp161 LDO_VOP "dp161 (A62): LDO_VOP", dp162 RECT10PF_OUTA "dp162 (A63): RECT10PF_OUTA", dp163 RECT10PF_P_INA "dp163 (A64): RECT10PF_P_INA", dp164 RECT10PF_N_INA "dp164 (A65): RECT10PF_N_INA", dp165 VDD_DIG_1P0_B "dp165 (PWR): VDD_DIG_1P0_B", dp166 VSS_DIG_1P0_B "dp166 (GND): VSS_DIG_1P0_B", dp167 VDDIO_DIG_2P5_B "dp167 (PWR): VDDIO_DIG_2P5_B", dp168 VSSIO_DIG_2P5_B "dp168 (GND): VSSIO_DIG_2P5_B", dp169 WPTCOMP_CLK_1P0_DIN "dp169 (D88): WPTCOMP_CLK_1P0_DIN", dp170 WPTCOMP_Q_1P0V_DOUT "dp170 (D89): WPTCOMP_Q_1P0V_DOUT", dp171 ARRAY_SEL_1P0_DIN<0> "dp171 (D90): ARRAY_SEL_1P0_DIN<0>", dp172 ARRAY_SEL_1P0_DIN<3> "dp172 (D91): ARRAY_SEL_1P0_DIN<3>", dp173 ARRAY_SEL_1P0_DIN<2> "dp173 (D92): ARRAY_SEL_1P0_DIN<2>", dp174 ARRAY_SEL_1P0_DIN<1> "dp174 (D93): ARRAY_SEL_1P0_DIN<1>", dp175 ARARY_AFE_DOUT_1P0<0> "dp175 (D94): ARARY_AFE_DOUT_1P0<0>", dp176 ARRAY_AFE_DOUT_1P0<3> "dp176 (D95): ARRAY_AFE_DOUT_1P0<3>", dp177 ARRAY_AFE_DOUT_1P0<2> "dp177 (D96): ARRAY_AFE_DOUT_1P0<2>", dp178 ARRAY_AFE_DOUT_1P0<1> "dp178 (D97): ARRAY_AFE_DOUT_1P0<1>", dp179 ARRAY_CLK_SAMPLE_DATA_1P0_DIN "dp179 (D98): ARRAY_CLK_SAMPLE_DATA_1P0_DIN", dp180 ARRAY_CLK_FEEDBACK_1P0_DIN "dp180 (D99): ARRAY_CLK_FEEDBACK_1P0_DIN", dp181 ARRAY_CLK_SAMPLING_1P0_DIN "dp181 (D100): ARRAY_CLK_SAMPLING_1P0_DIN", dp182 ARRAY_CLK_AZ_1P0_DIN "dp182 (D101): ARRAY_CLK_AZ_1P0_DIN", dp183 ARRAY_CLK_SAMPLE_REF_1P0_DIN "dp183 (D102): ARRAY_CLK_SAMPLE_REF_1P0_DIN", dp184 ARRAY_CLK_HOLD_1P0_DIN "dp184 (D103): ARRAY_CLK_HOLD_1P0_DIN", dp185 ARRAY_CLK_1P0_DIN "dp185 (D104): ARRAY_CLK_1P0_DIN", dp186 STIM_SERIAL_DIN "dp186 (D105): STIM_SERIAL_DIN", dp187 STIM_CLK_DIN "dp187 (D106): STIM_CLK_DIN", dp188 STIM_RST_L_DIN "dp188 (D107): STIM_RST_L_DIN", dp189 ARRAY_STIM_SERIAL_OUT "dp189 (D108): ARRAY_STIM_SERIAL_OUT", dp190 ARRAY_SEL_1P0_DIN<4> "dp190 (D109): ARRAY_SEL_1P0_DIN<4>", dp191 BF_PWDATA[0] (hiz) hidden "dp191 (D110): BF_PWDATA[0]", dp192 BF_PWDATA[1] (hiz) hidden "dp192 (D111): BF_PWDATA[1]", dp193 BF_PWDATA[2] (hiz) hidden "dp193 (D112): BF_PWDATA[2]", dp194 BF_PWDATA[3] (hiz) hidden "dp194 (D113): BF_PWDATA[3]", dp195 BF_PWDATA[4] (hiz) hidden "dp195 (D114): BF_PWDATA[4]", dp196 BF_PWDATA[5] (hiz) hidden "dp196 (D115): BF_PWDATA[5]", dp197 BF_PWDATA[6] (hiz) hidden "dp197 (D116): BF_PWDATA[6]", dp198 BF_PWDATA[7] (hiz) hidden "dp198 (D117): BF_PWDATA[7]", dp199 BF_PWDATA[8] (hiz) hidden "dp199 (D118): BF_PWDATA[8]", dp200 BF_PWDATA[9] (hiz) hidden "dp200 (D119): BF_PWDATA[9]", dp201 BF_PWDATA[10] (hiz) hidden "dp201 (D120): BF_PWDATA[10]", dp202 BF_PWDATA[11] (hiz) hidden "dp202 (D121): BF_PWDATA[11]", dp203 BF_PWDATA[12] (hiz) hidden "dp203 (D122): BF_PWDATA[12]", dp204 BF_PWDATA[13] (hiz) hidden "dp204 (D123): BF_PWDATA[13]", dp205 BF_PWDATA[14] (hiz) hidden "dp205 (D124): BF_PWDATA[14]", dp206 BF_PWDATA[15] (hiz) hidden "dp206 (D125): BF_PWDATA[15]", dp207 BF_PADDR[0] (hiz) hidden "dp207 (D126): BF_PADDR[0]", dp208 BF_PADDR[1] (hiz) hidden "dp208 (D127): BF_PADDR[1]", dp209 BF_PADDR[2] (hiz) hidden "dp209 (D128): BF_PADDR[2]", dp210 BF_PADDR[3] (hiz) hidden "dp210 (D129): BF_PADDR[3]", dp211 BF_PADDR[4] (hiz) hidden "dp211 (D130): BF_PADDR[4]", dp212 BF_RST (hiz) hidden "dp212 (D131): BF_RST", dp213 BF_CLK (hiz) hidden "dp213 (D132): BF_CLK", dp214 BF_PSEL[0] (hiz) hidden "dp214 (D133): BF_PSEL[0]", dp215 BF_PSEL[1] (hiz) hidden "dp215 (D134): BF_PSEL[1]", dp216 BF_PSEL[2] (hiz) hidden "dp216 (D135): BF_PSEL[2]", dp217 BF_PSEL[3] (hiz) hidden "dp217 (D136): BF_PSEL[3]", dp218 BF_PSEL[4] (hiz) hidden "dp218 (D137): BF_PSEL[4]", dp219 BF_PSEL[5] (hiz) hidden "dp219 (D138): BF_PSEL[5]", dp220 BF_PWRITE (hiz) hidden "dp220 (D139): BF_PWRITE", dp221 BF_PENABLE (hiz) hidden "dp221 (D140): BF_PENABLE", dp222 BF_SYS_EN (hiz) hidden "dp222 (D141): BF_SYS_EN", dp223 UP_CLKIN_ARM (hiz) hidden "dp223 (D142): UP_CLKIN_ARM", dp224 T2_RST_1P0_DIN "dp224 (D143): T2_RST_1P0_DIN", dp225 T2_FEEDBACK_1P0_DIN<6> "dp225 (D144): T2_FEEDBACK_1P0_DIN<6>", dp226 T2_FEEDBACK_1P0_DIN<5> "dp226 (D145): T2_FEEDBACK_1P0_DIN<5>", dp227 T2_FEEDBACK_1P0_DIN<4> "dp227 (D146): T2_FEEDBACK_1P0_DIN<4>", dp228 T2_FEEDBACK_1P0_DIN<3> "dp228 (D147): T2_FEEDBACK_1P0_DIN<3>", dp229 T2_FEEDBACK_1P0_DIN<2> "dp229 (D148): T2_FEEDBACK_1P0_DIN<2>", dp230 T2_FEEDBACK_1P0_DIN<1> "dp230 (D149): T2_FEEDBACK_1P0_DIN<1>", dp231 T2_FEEDBACK_1P0_DIN<0> "dp231 (D150): T2_FEEDBACK_1P0_DIN<0>", dp232 T2_CLK_FEEDBACK_1P0_DIN "dp232 (D151): T2_CLK_FEEDBACK_1P0_DIN", dp233 T2_CLK_SAMPLING_1P0_DIN "dp233 (D152): T2_CLK_SAMPLING_1P0_DIN", dp234 T2_CLK_SAMPLE_REF_1P0_DIN "dp234 (D153): T2_CLK_SAMPLE_REF_1P0_DIN", dp235 T2_CLK_PUSH_1P0_DIN "dp235 (D154): T2_CLK_PUSH_1P0_DIN", dp236 T2_CLK_1P0_DIN "dp236 (D155): T2_CLK_1P0_DIN", dp237 T2_OUTB_1P0_DOUT "dp237 (D156): T2_OUTB_1P0_DOUT", dp238 T2_OUT_1P0_DOUT "dp238 (D157): T2_OUT_1P0_DOUT", dp239 T1_RST_1P0_DIN "dp239 (D158): T1_RST_1P0_DIN", dp240 T1_FEEDBACK_1P0_DIN<6> "dp240 (D159): T1_FEEDBACK_1P0_DIN<6>", dp241 T1_FEEDBACK_1P0_DIN<5> "dp241 (D160): T1_FEEDBACK_1P0_DIN<5>", dp242 T1_FEEDBACK_1P0_DIN<4> "dp242 (D161): T1_FEEDBACK_1P0_DIN<4>", dp243 T1_FEEDBACK_1P0_DIN<3> "dp243 (D162): T1_FEEDBACK_1P0_DIN<3>", dp244 T1_FEEDBACK_1P0_DIN<2> "dp244 (D163): T1_FEEDBACK_1P0_DIN<2>", dp245 T1_FEEDBACK_1P0_DIN<1> "dp245 (D164): T1_FEEDBACK_1P0_DIN<1>", dp246 T1_FEEDBACK_1P0_DIN<0> "dp246 (D165): T1_FEEDBACK_1P0_DIN<0>", dp247 T1_CLK_FEEDBACK_1P0_DIN "dp247 (D166): T1_CLK_FEEDBACK_1P0_DIN", dp248 T1_CLK_SAMPLING_1P0_DIN "dp248 (D167): T1_CLK_SAMPLING_1P0_DIN", dp249 T1_CLK_SAMPLE_REF_1P0_DIN "dp249 (D168): T1_CLK_SAMPLE_REF_1P0_DIN", dp250 T1_CLK_PUSH_1P0_DIN "dp250 (D169): T1_CLK_PUSH_1P0_DIN", dp251 T1_CLK_1P0_DIN "dp251 (D170): T1_CLK_1P0_DIN", dp252 T1_OUTB_1P0_DOUT "dp252 (D171): T1_OUTB_1P0_DOUT", dp253 T1_OUT_1P0_DOUT "dp253 (D172): T1_OUT_1P0_DOUT", dp254 VSSIO_DIG_2P5_A "dp254 (GND): VSSIO_DIG_2P5_A", dp255 VDDIO_DIG_2P5_A "dp255 (PWR): VDDIO_DIG_2P5_A", dp256 VSS_DIG_1P0_A "dp256 (GND): VSS_DIG_1P0_A", dp257 VDD_DIG_1P0_A "dp257 (PWR): VDD_DIG_1P0_A", dp-gnd1 C-GND1 "dp125 (GND): VSS+CLAMP", dp-gnd2 C-GND2 "dp125 (GND): VSS+CLAMP", dp-gnd3 C-GND3 "dp125 (GND): VSS+CLAMP", dp-gnd4 C-GND4 "dp125 (GND): VSS+CLAMP", dpc_a WPT_COILA_INA "dpc_a: WPT_COILA_INA", dpc_b WPT_COILB_INA "dpc_b: WPT_COILB_INA", dpw WPOC_TEST_INA "dpw: WPOC_TEST_INA"

## IND-L1210R2R2MDWIT
designator L?, comment 2u2 / 2A
FIXED IND 2.2UH 2A 80 MOHM SMD; Manufacturer: KEMET; Manufacturer Part Number: L1210R2R2MDWIT; Core Material: Ferrite; Tolerance: 20%; Shielding: Unshielded; Self Resonant Frequency: 190MHz; DC Resistance (DCR): 80mR; Test Frequency: 100kHz; DC Current: 1.13A; Supplier 1: Digi-Key; Stock 1: 24768; Pricing 1: 1=0.55, 10=0.479, 100=0.3421, 500=0.2874 (USD); Mount: Surface Mount; Case/Package: 1210; Case Code (Metric): 3225; Case Code (Imperial): 1210; Min Operating Temperature: -40°C; Max Operating Temperature: 105°C; Inductance: 2.2uh; Max DC Current: 2A; Package Quantity: 1000; Current Rating: 2A; Packaging: Tape and Reel; Inductance Tolerance: 20%; Composition: Wirewound,Ceramic; Termination: SMD/SMT; Military Standard: Not; Length: 0.126inch; Height: 2.5mm; Width: 0.098inch; Height - Seated (Max): 0.106inch; Depth: 2.7mm; Radiation Hardening: No; REACH SVHC: No SVHC; ComponentLink1URL: https://datasheet.ciiva.com/4957/f3115-4957838.pdf; ComponentLink1Description: https://datasheet.ciiva.com/4957/f3115-4957838.pdf; ComponentLink2URL: https://datasheet.ciiva.com/17280/f3115-17280270.pdf; ComponentLink2Description: https://datasheet.ciiva.com/17280/f3115-17280270.pdf; ComponentLink3URL: https://datasheet.ciiva.com/22685/27262-22685038.pdf; ComponentLink3Description: https://datasheet.ciiva.com/22685/27262-22685038.pdf; ComponentLink4URL: https://datasheet.ciiva.com/6691/f3115-6691487.pdf; ComponentLink4Description: https://datasheet.ciiva.com/6691/f3115-6691487.pdf; ComponentLink5URL: https://datasheet.ciiva.com/8512/f3115-8512543.pdf; ComponentLink5Description: https://datasheet.ciiva.com/8512/f3115-8512543.pdf; Supplier Part Number 1: 399-9598-1-ND
footprint C1210_IND
pins: 1, 2

## Jumper-01x03
designator JP?, comment Jumper  (value not drawn)
01X03 generic terminal connector
footprint 01x03_0.1in_th_straight_b_nom (3 positions (1 row, 3 columns), 0.1 Inch pitch, through hole straight header (B Density))
pins: 1, 2, 3

## LG L29K-G2J1-24-Z
designator D?, comment Green
LED GREEN DIFFUSED 0603 SMD; Manufacturer: OSRAM Opto Semiconductors Inc.; Manufacturer Part Number: LG L29K-G2J1-24-Z; Lens Color: White; Millicandela Rating: 3.92mcd; Lens Style/Size: Rectangle with Flat Top, 1.30mm x 0.80mm; Voltage - Forward (Vf) (Typ): 1.7V; Current - Test: 2mA; Viewing Angle: 160°; Wavelength - Dominant: 570nm; Wavelength - Peak: 572nm; Supplier 1: Digi-Key; RoHS: RoHS Compliant; Category: Optoelectronics; Stock 1: 0; Pricing 1: 1=0.47, 10=0.339, 25=0.2768, 100=0.2215, 250=0.18688, 500=0.15918, 1000=0.12458, 2500=0.1142 (USD); Packaging: Cut Tape (CT); Part Status: Active; Color: Green; Lens Transparency: Diffused; Mounting Type: Surface Mount; Features: -; Package / Case: 0603 (1608 Metric); Supplier Device Package: 0603; Size / Dimension: 1.70mm L x 0.80mm W; Height (Max): 0.65mm; ComponentLink1URL: http://www.osram-os.com/Graphics/XPic0/00167682_0.pdf; ComponentLink1Description: http://www.osram-os.com/Graphics/XPic0/00167682_0.pdf; Supplier Part Number 1: 475-2709-1-ND
footprint LED_0603
pins: 1 Cathode, 2 Anode

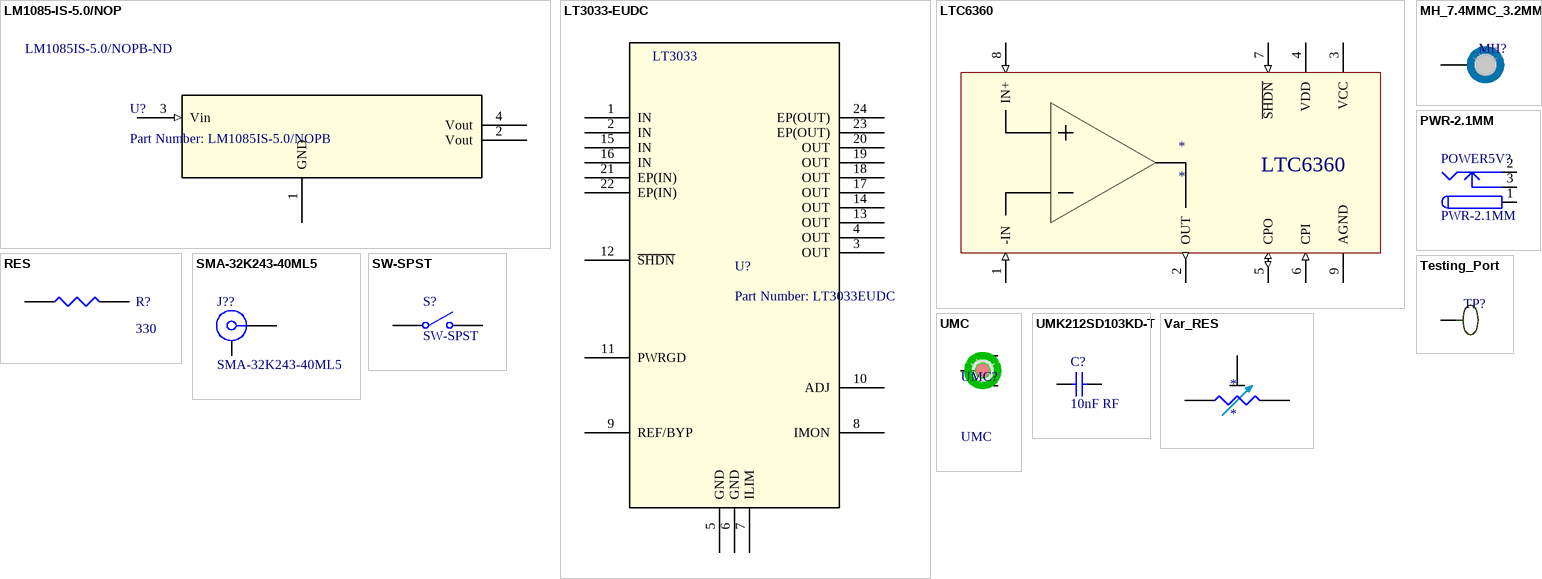
[diagram p3: symbols LM1085-IS-5.0/NOP to Var_RES]

## LM1085-IS-5.0/NOP
designator U?, comment Part Number: LM1085IS-5.0/NOPB  Supplier Part Number 1: LM1085IS-5.0/NOPB-ND
No Description Available; Vendor: Texas Instruments; Built_By: EMA_UL_Team; SourceLibrary: National_2011-09-26; Manufacturer_Part_Number: LM1085IS-5.0/NOPB; Copyright: Copyright (C) 2018 Accelerated Designs. All rights reserved; RefDes: RefDes; Type: DEV; Value: Value; Supplier 1: Digi-Key
footprint LM1085
pins: 1 GND, 2 Vout (power), 3 Vin (in), 4 Vout (power)

## LT3033-EUDC
designator U?, comment Part Number: LT3033EUDC
No Description Available; Vendor: Analog Devices Inc; Built_By: Analog_Devices_Team; Manufacturer_Part_Number: LT3033EUDC; Copyright: Copyright (C) 2018 Accelerated Designs. All rights reserved; RefDes: RefDes; Type: DEV; Value: Value
footprint LT3033
pins: 1 IN, 2 IN, 3 OUT, 4 OUT, 5 GND, 6 GND, 7 ILIM, 8 IMON, 9 REF/BYP, 10 ADJ, 11 PWRGD, 12 ~{SHDN}, 13 OUT, 14 OUT, 15 IN, 16 IN, 17 OUT, 18 OUT, 19 OUT, 20 OUT, 21 EP(IN), 22 EP(IN), 23 EP(OUT), 24 EP(OUT)
text: LT3033

## LTC6360
designator *
footprint LTC6360
pins: 1 -IN (in), 2 OUT (out), 3 VCC (power), 4 VDD (power), 5 CPO (io), 6 CPI (in), 7 ~{SHDN} (in), 8 IN+ (in), 9 AGND (power)

## MH_7.4MMC_3.2MMC
designator MH?, comment MH_7.4MMC_3.2MMD  (value not drawn)  (no BOM)
Mounting Hole 7.4mm Diameter, 3.2mm Drill
footprint MH_7.4MMD_3.2MMD
pins: 1

## PWR-2.1MM
designator POWER5V?
PJ-002AH; Manufacturer: CUI; Gender: Male; Shielding: Unshielded; Connector Type: Jack; Current Rating: 5A; Number of Conductors: 2; Voltage Rating: 24V; Insulation Resistance: 50MR; Supplier 1: Digi-Key; Manufacturer Part Number: PJ-002AH; Stock 1: 95768; Pricing 1: 1=0.74, 10=0.696, 25=0.6264, 50=0.5568, 100=0.5336, 250=0.4872, 500=0.464, 1000=0.3828, 2500=0.348 (USD); Mount: Through Hole; Colour: Black; Contact Material: Copper,Copper Alloy; Contact Plating: Nickel; Housing Material: Thermoplastic; Housing Colour: Black; Min Operating Temperature: -25°C; Max Operating Temperature: 85°C; Packaging: Bulk; Termination: Through Hole; Orientation: Horizontal; Package Quantity: 500; Contact Gender: Male; Diameter: 2.1mm; Lead Free: Lead Free; Flammability Rating: UL94 V-0; ComponentLink1URL: http://www.cui.com/Product/Resource/FuturePDF/PJ-002AH.pdf; ComponentLink1Description: http://www.cui.com/Product/Resource/FuturePDF/PJ-002AH.pdf; ComponentLink2URL: http://www.cui.com/product/resource/digikeypdf/pj-002ah.pdf; ComponentLink2Description: http://www.cui.com/product/resource/digikeypdf/pj-002ah.pdf; ComponentLink3URL: http://www.mouser.com/ds/2/670/pj-002ah-516007.pdf; ComponentLink3Description: http://www.mouser.com/ds/2/670/pj-002ah-516007.pdf; Supplier Part Number 1: CP-002AH-ND
footprint POWER2.1MM
pins: 1 (power), 2 (power), 3 (power)

## RES
designator R?, comment 330
footprint R0805
pins: 1, 2
2 alternate drawings of the same symbol

## SMA-32K243-40ML5
designator J??
SMA Right Angle Jack, Edge Mount Screw On, Heavy Duty, Up to 18 GHz, -65 to 165 degC; Design Note: Footprint in library is a generic example - only application specific footprint delivers High Performance; DatasheetVersion: c00; PackageVersion: c00; PackageReference: 32K243-40ML5; PackageDescription: SMA Right Angle Jack, Edge Mount Screw On, 14.50 x 14.00 x 5.15 mm; Mounting Technology: Surface Mount; PartNumber: 32K243-40ML5; ComponentLink1Description: Manufacturer URL; ComponentLink1URL: http://www.rosenberger.de; ComponentLink2Description: Datasheet; ComponentLink2URL: http://rosenberger.de/ok/images/documents/db/32K243-40ML5.pdf; ComponentLink3Description: Package Specification; ComponentLink3URL: http://rosenberger.de/ok/images/documents/db/32K243-40ML5.pdf; ComponentLink4Description: Series Overview / Design Note; ComponentLink4URL: http://rosenberger.de/ok/images/documents/spez/32.pdf; ComponentLink5Description: Webshop / RFQ; ComponentLink5URL: http://www.rosenberger.com/en/contact/sales/
footprint ROS-32K243-40ML5_V (SMA Jack, Right Angle, Edge Mount Screw On, 14.50x14.00x5.15mm, Rosenberger Recommended)
pins: 1, MH

## SW-SPST
designator S?
L101011MS02Q; Manufacturer: ITT C&K; Actuator Material: Nylon,Polyamide; Max Voltage Rating (AC): 250V; Max Voltage Rating (DC): 125V; Throw Configuration: SPST; Max Current Rating: 4A; Voltage Rating (DC): 28V; Contact Current Rating: 2A; Electrical Life: 10000Cycles; Switch Travel: 3.81mm; Switch Function: On-Off; Actuator Length: 5.08mm; Supplier 1: Digi-Key; Manufacturer Part Number: L101011MS02Q; Stock 1: 8267; Pricing 1: 1=1.65, 10=1.584, 25=1.5504, 50=1.3482, 100=1.3145, 250=1.2808, 500=1.0786, 1000=1.0112, 5000=0.9269 (USD); Mount: Through Hole; Contact Material: Copper; Contact Plating: Silver; Housing Material: Nylon; Min Operating Temperature: -30°C; Max Operating Temperature: 65°C; Termination: PC Pins; Voltage Rating (AC): 125V; Package Quantity: 1; Packaging: Bulk; Current Rating: 4A; Orientation: Straight; Length: 19.1mm; Depth: 10.8mm; Radiation Hardening: No; Lead Free: Lead Free; ComponentLink1URL: https://datasheet.ciiva.com/17406/l-10jun14-17406600.pdf; ComponentLink1Description: https://datasheet.ciiva.com/17406/l-10jun14-17406600.pdf; ComponentLink2URL: https://datasheet.ciiva.com/18147/getdatasheetpartid-301248-18147196.pdf; ComponentLink2Description: https://datasheet.ciiva.com/18147/getdatasheetpartid-301248-18147196.pdf; ComponentLink3URL: https://datasheet.ciiva.com/2889/l-10jun14-2889869.pdf; ComponentLink3Description: https://datasheet.ciiva.com/2889/l-10jun14-2889869.pdf; Supplier Part Number 1: CKC5106-ND
footprint SPST-2 (Switch; 2 Leads)
pins: 1 COMMON, 2 NO

## Testing_Port
designator TP?  (value not drawn)
01X01 generic terminal connector
footprint Testing_point
pins: 1

## UMC
designator UMC?
footprint UMC
pins: 1 SIG, 2 GND, 3 GND

## UMK212SD103KD-T
designator C?, comment 10nF RF
CAP 10nF 50V RF; Manufacturer: Taiyo Yuden; Manufacturer Part Number: UMK212SD103KD-T; Dielectric Material: Ceramic; Tolerance: 10%; Supplier 1: Digi-Key; Stock 1: 14125; Pricing 1: 1=0.47, 10=0.323, 100=0.1941, 500=0.1455, 1000=0.1229 (USD); Mount: Surface Mount; Case/Package: 0805; Number of Pins: 2; Case Code (Metric): 2012; Case Code (Imperial): 0805; Min Operating Temperature: -55°C; Max Operating Temperature: 125°C; Capacitance: 10nF; Packaging: Tape and Reel; Package Quantity: 1; Voltage Rating: 50V; Voltage Rating (DC): 50V; Termination: SMD/SMT; Length: 2mm; Height: 0.85mm; Width: 0.049inch; Thickness: 0.037inch; Depth: 1.25mm; Radiation Hardening: No; Lead Free: Lead Free; Halogen Free: Halogen Free; ComponentLink1URL: https://datasheet.ciiva.com/138/umk212sd103kd-t-ss-138661.pdf; ComponentLink1Description: https://datasheet.ciiva.com/138/umk212sd103kd-t-ss-138661.pdf; ComponentLink2URL: https://datasheet.ciiva.com/138/mlcc07-e-138662.pdf; ComponentLink2Description: https://datasheet.ciiva.com/138/mlcc07-e-138662.pdf; ComponentLink3URL: https://datasheet.ciiva.com/138/mlcc07-e-138663.pdf; ComponentLink3Description: https://datasheet.ciiva.com/138/mlcc07-e-138663.pdf; ComponentLink4URL: https://datasheet.ciiva.com/30140/303umk212sd103kd-t-30140925.pdf; ComponentLink4Description: https://datasheet.ciiva.com/30140/303umk212sd103kd-t-30140925.pdf; Supplier Part Number 1: 587-1114-1-ND
footprint C0805
pins: 1, 2

## Var_RES
designator *
footprint res_var_5turn
pins: 1, 2, 3